# Altium integrated library GLCD12864.IntLib: 1 symbol
Pins are listed as number, name and electrical type; pins without a type are passive.

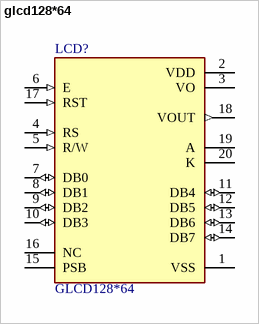
[diagram p0: symbol glcd128*64]

## glcd128*64
designator LCD?, comment GLCD128*64
footprint GLCD128*64
pins: 1 VSS (power), 2 VDD (power), 3 VO (power), 4 RS (in), 5 R/W (in), 6 E (in), 7 DB0 (io), 8 DB1 (io), 9 DB2 (io), 10 DB3 (io), 11 DB4 (io), 12 DB5 (io), 13 DB6 (io), 14 DB7 (io), 15 PSB, 16 NC, 17 RST (in), 18 VOUT (out), 19 A, 20 K